# EAGLE library part 615008138321 (library Wurth_Connectors_WR-MJ)
WR-MJ Modular Jack Horizontal Shielded SMT w. LED and EMI Panel Finger 8P8C Tab Up KIND PROPERTIES LED yellow-green General Information Operating Temperature -40 up to +85 °C Electrical Properties Working Voltage 120 V (AC) Withstanding Voltage 1000 V (AC) Contact Resistance 20 mΩ RISO 500 MΩ Material Properties Insulator Material PBT Insulator Flammability Rating UL94 V-0 Insulator Color Black Contact Material Copper Alloy Contact Plating Gold Contact Type Stamped Shielding Material Bronze Shielding Plating Nickel (Ni) Packaging Properties Packaging Tray <https://www.we-online.com/components/media/o33126v209%20Family_WR-MJ_615008138321.jpg> Details see: www.we-online.com/en/components/products/MJ_VERTICAL_SHIELDED_8P8C_W_LED <www.we-online.com/catalog/MJ_VERTICAL_SHIELDED_8P8C_W_LED/?utm_source=eagle_model&utm_medium=description_link&utm_campaign=eisos_eagle> Updated by Ella Wu 2023-06-27 2023 (C) Würth Elektronik
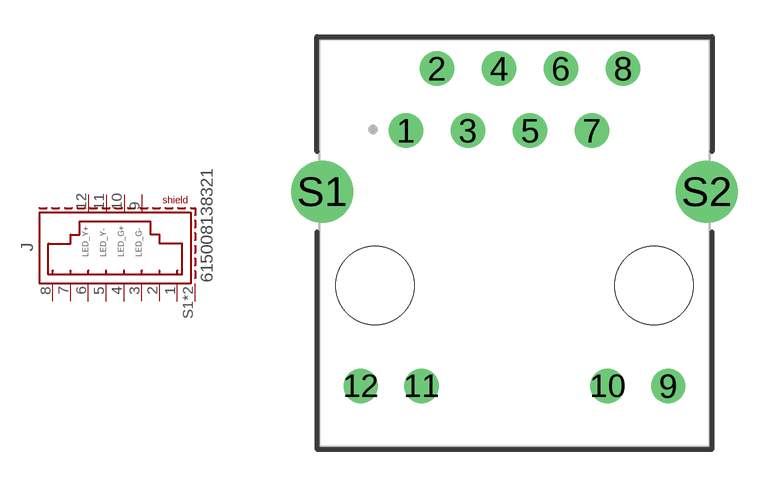
[diagram p3: symbol with the pads of 615008138321; footprint 615008138321]

Designator prefix J

## 615008138321 (DATASHEET-URL: https://www.we-online.com/redexpert/spec/615008138321?ae; LED: yellow-green; MOUNT: THT; PART-NUMBER: 615008138321; TYPE: Vertical; VALUE: 615008138321; XPXC: 8P8C)  [615008138321]
1  1  pas
2  2  pas
3  3  pas
4  4  pas
5  5  pas
6  6  pas
7  7  pas
8  8  pas
9  G-  pas
10  G+  pas
11  Y-  pas
12  Y+  pas
S1  SHIELD  pas
S2  SHIELD  pas

## Footprint 615008138321 (pad centres in mm)
WR-MJ Modular Jack Vertical Shielded 8P8C w. LED, 8 pins
drill 0.9: 1 -4.445,4.6; 2 -3.175,7.14; 3 -1.905,4.6; 4 -0.635,7.14; 5 0.635,4.6; 6 1.905,7.14; 7 3.175,4.6; 8 4.445,7.14; 9 6.3,-5.86; 10 3.81,-5.86; 11 -3.81,-5.86; 12 -6.3,-5.86
drill 1.7: S1 -7.875,2.1; S2 7.875,2.1
hole 3.2 at 5.715,-1.75
hole 3.2 at -5.715,-1.75